# EAGLE library part ISP (library Headers)
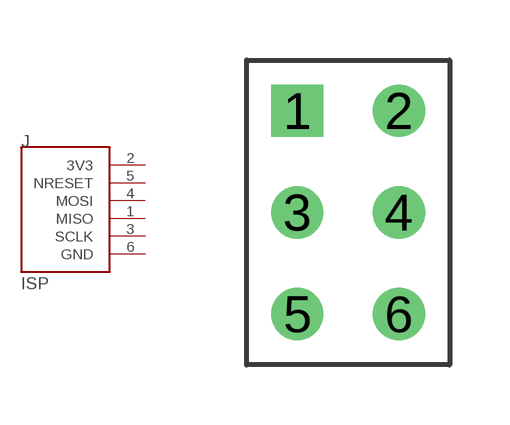
[diagram p0: symbol with the pads of DUALHEAD_TH_6; footprint DUALHEAD_TH_6]

Designator prefix J

## ISP  [DUALHEAD_TH_6]
1  MISO
2  3V3  pwr
3  SCLK  out
4  MOSI  out
5  NRESET  out
6  GND  pwr

## Footprint DUALHEAD_TH_6 (pad centres in mm)
drill 0.8 square: 1 -1.27,2.54
drill 0.8: 2 1.27,2.54; 3 -1.27,0; 4 1.27,0; 5 -1.27,-2.54; 6 1.27,-2.54